# EAGLE library part AR6115 (library avc)
Spektrum AR6115 receiver
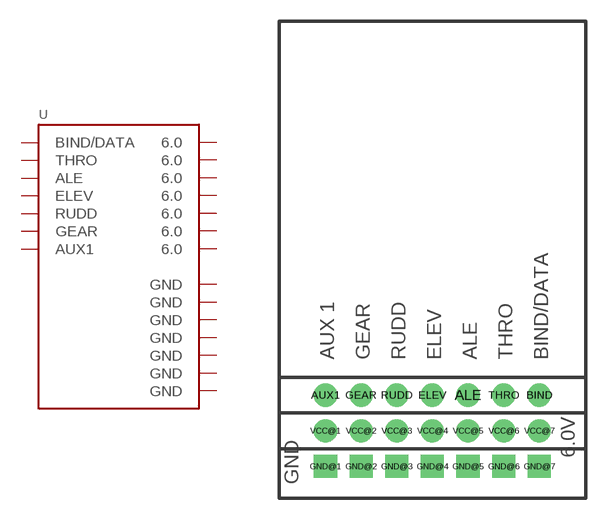
[diagram p2: symbol with the pads of AR6115; footprint AR6115]

Designator prefix U

## AR6115 (PARTNUM: AR6115)  [AR6115]
ALE  ALE
AUX1  AUX1
BIND  BIND/DATA
ELEV  ELEV
GEAR  GEAR
GND@1  GND
GND@2  GND
GND@3  GND
GND@4  GND
GND@5  GND
GND@6  GND
GND@7  GND
RUDD  RUDD
THRO  THRO
VCC@1  6.0
VCC@2  6.0
VCC@3  6.0
VCC@4  6.0
VCC@5  6.0
VCC@6  6.0
VCC@7  6.0

## Footprint AR6115 (pad centres in mm)
Spektrum AR6115
drill 1.1 round: ALE 2.54,5.08; AUX1 -7.62,5.08; BIND 7.62,5.08; ELEV 0,5.08; GEAR -5.08,5.08; RUDD -2.54,5.08; THRO 5.08,5.08; VCC@1 -7.62,2.54; VCC@2 -5.08,2.54; VCC@3 -2.54,2.54; VCC@4 0,2.54; VCC@5 2.54,2.54; VCC@6 5.08,2.54; VCC@7 7.62,2.54
drill 1.1 square: GND@1 -7.62,0; GND@2 -5.08,0; GND@3 -2.54,0; GND@4 0,0; GND@5 2.54,0; GND@6 5.08,0; GND@7 7.62,0